# Altium footprint library 2440_LIB.PcbLib: 50 footprints (part 4 of 4)
Each footprint in its own frame and in the unit in brackets; x right, y up, seen from the top. Pads: shape width x height; smd on the part's side, far side on the other; paste and mask are expansions set on the pad; w line width, h text height; cw(c..) or ccw(c..) is an arc to the next point about the centre after c.
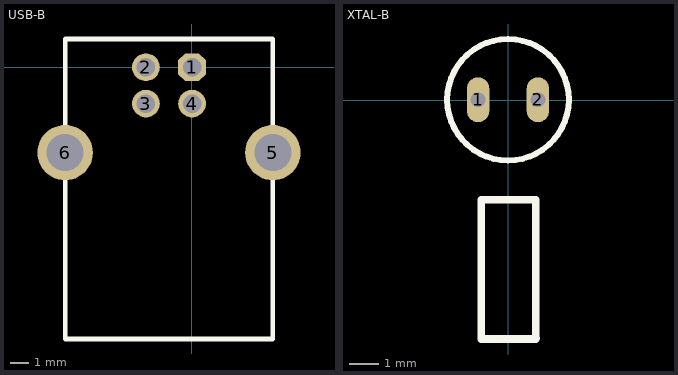
[diagram p3: the footprints below, top view; thin cyan lines are the x and y axes]

## USB-B [mil]
pads (6):
  oct 60x60 hole 40: 1(0.24,0.17)
  round 60 hole 40: 2(-99.76,0.17) 3(-99.76,-78.57) 4(0.24,-78.57)
  round 120 hole 80: 5(175.24,-184.87) 6(-274.76,-184.87)
TopOverlay:
  lines w10: -274.76,-588.57 175.24,-588.57 175.24,61.43 -274.76,61.43 -274.76,-588.57

## XTAL-B [mm]
pads (2):
  oval 0.75x1.5 hole 0.5: 1(-1.004,0.017) 2(0.996,0.017)
TopOverlay:
  circle w0.2: c-0.004,0.017 r2.032
  lines w0.254: 0.946,-7.958 0.921,-7.983 ; 0.921,-7.983 -0.904,-7.983 -0.904,-3.333 0.921,-3.333 0.921,-7.983